# EAGLE library part M95M04-DR (library memory)
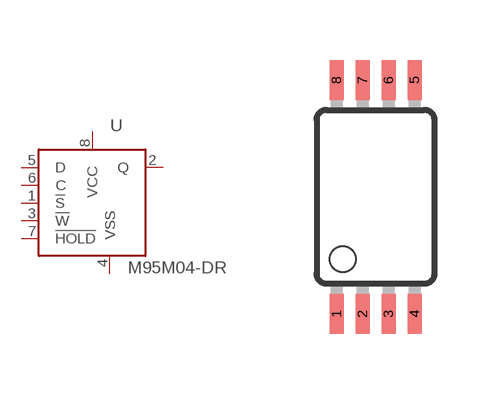
[diagram p0: symbol with the pads of TSSOP8; footprint TSSOP8]

Designator prefix U

## M95M04-DR-DW-6TP  [TSSOP8]
1  !S
2  Q
3  !W
4  VSS
5  D
6  C
7  !HOLD
8  VCC

## Footprint TSSOP8 (pad centres in mm)
8A2-TSSOP Source: http://www.atmel.com/dyn/resources/prod_documents/doc5089.pdf
smd 0.35 x 1: 1 -0.975,-2.925; 2 -0.325,-2.925; 3 0.325,-2.925; 4 0.975,-2.925; 5 0.975,2.925; 6 0.325,2.925; 7 -0.325,2.925; 8 -0.975,2.925